# Altium footprint library PCB_MOTELIGHT_RADIO_ED02R2_05022020.PcbLib: 33 footprints (part 3 of 3)
Each footprint in its own frame and in the unit in brackets; x right, y up, seen from the top. Pads: shape width x height; smd on the part's side, far side on the other; paste and mask are expansions set on the pad; w line width, h text height; cw(c..) or ccw(c..) is an arc to the next point about the centre after c.
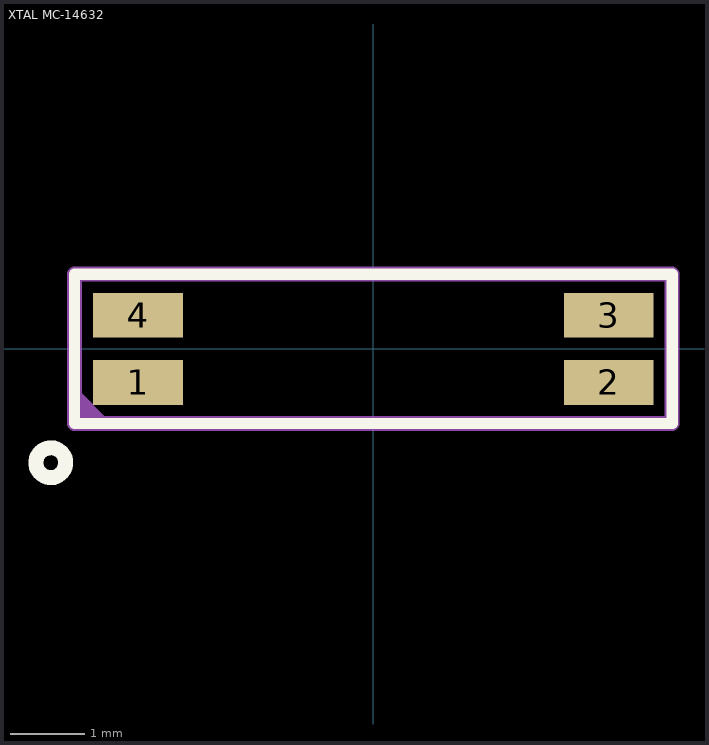
[diagram p2: the footprint, top view; thin cyan lines are the x and y axes]

## XTAL MC-14632 [mm]
height 1.4
pads (4):
  rect 1.2x0.6 smd mask+0.05: 1(-3.15,-0.45) 2(3.15,-0.45) 3(3.15,0.45) 4(-3.15,0.45)
Top Overlay:
  circle w0.2: c-4.318,-1.524 r0.2
  lines w0.152: -4,-1 -4,1 4,1 4,-1 -4,-1
Mechanical 7:
  lines w0.1: -4,-0.7 -4,0.7 ; -0.9,-1 0.9,-1 ; -0.9,1 0.9,1 ; 4,-0.7 4,0.7
Top Assembly (Mech29):
  region: -4,-1 -3.504,-1 -4,-0.504
  lines w0.2: -4,-1 -4,1 4,1 4,-1 -4,-1
  text "'.Designator'" at -3.302,-0.762 h1.5